# EAGLE library part ADM3071 (library DSDEagleLibrary)
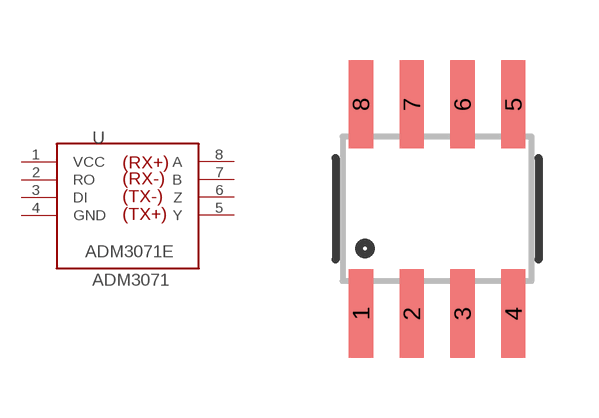
[diagram p5: symbol with the pads of SOIC8; footprint SOIC8]

Designator prefix U

## ADM3071  [SOIC8]
1  VCC
2  RO
3  DI
4  GND
5  Y
6  Z
7  B
8  A

## Footprint SOIC8 (pad centres in mm)
smd 0.61 x 2.21: 1 -1.905,-2.616; 2 -0.635,-2.616; 3 0.635,-2.616; 4 1.905,-2.616; 5 1.905,2.616; 6 0.635,2.616; 7 -0.635,2.616; 8 -1.905,2.616